# Altium footprint library CP_10.2MM_6.0X13.0X12.0.PcbLib: 1 footprints
Each footprint in its own frame and in the unit in brackets; x right, y up, seen from the top. Pads: shape width x height; smd on the part's side, far side on the other; paste and mask are expansions set on the pad; w line width, h text height; cw(c..) or ccw(c..) is an arc to the next point about the centre after c.
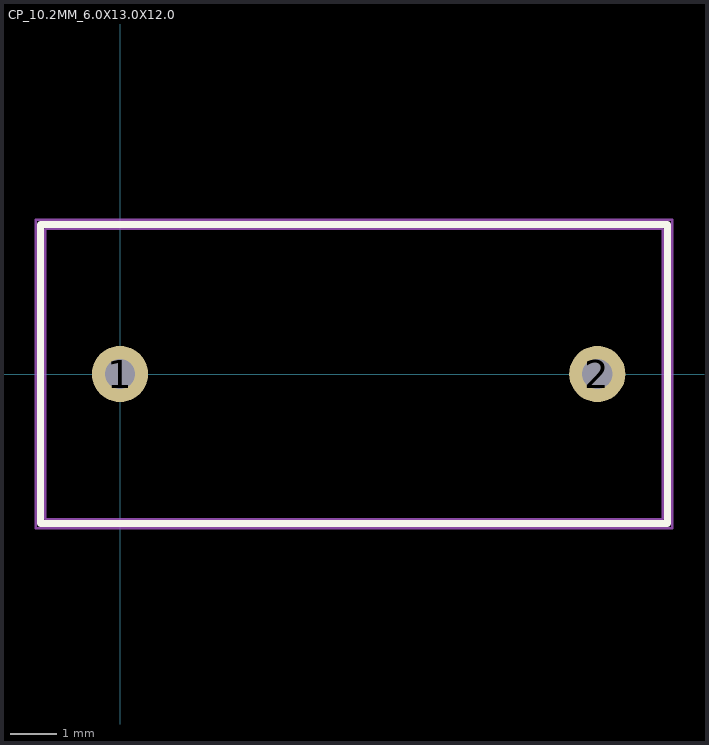
[diagram p0: the footprint, top view; thin cyan lines are the x and y axes]

## CP_10.2MM_6.0X13.0X12.0 [mm]
pads (2):
  round 1.2 hole 0.65: 1(0,0) 2(10.2,0)
Top Overlay:
  lines w0.15: -1.7,-3.2 -1.7,3.2 11.7,3.2 11.7,-3.2 -1.7,-3.2
Top Assembly:
  lines w0.05: -1.6,-3.1 -1.6,3.1 11.6,3.1 11.6,-3.1 -1.6,-3.1
Top Courtyard:
  lines w0.05: -1.8,-3.3 11.8,-3.3 11.8,3.3 -1.8,3.3 -1.8,-3.3
3D body "R463F310040M1M v1.step": height 12.1, standoff -2, extent -1.6,-3.103 11.6,3.102